# EAGLE library part USBC6PIN (library usbc6pin)
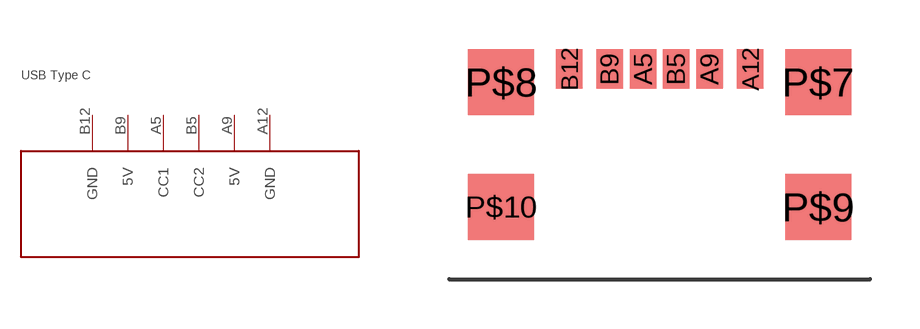
[diagram p0: symbol with the pads of USBC6PIN; footprint USBC6PIN]

Designator prefix -

## USBC6PIN  [USBC6PIN]
A5  CC1
A9  5V
A12  GND
B5  CC2
B9  5V
B12  GND

## Footprint USBC6PIN (pad centres in mm)
smd 0.8 x 1.2: A5 -0.5,0; A9 1.52,0; A12 2.75,0; B5 0.5,0; B9 -1.52,0; B12 -2.75,0
smd 2 x 2: P$7 4.82,-0.4; P$8 -4.82,-0.4; P$9 4.82,-4.2; P$10 -4.82,-4.2